# EAGLE library part 10HS (library con-harting-h)
CONNECTOR
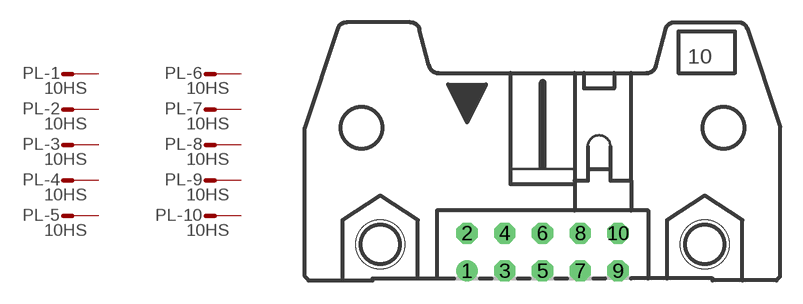
[diagram p11: symbol with the pads of 10H; footprint 10H]

Designator prefix PL; gates -1=M -2=M -3=M -4=M -5=M -6=M -7=M -8=M -9=M -10=M

## 10HS  [10H]
1  -1:S  pas
2  -2:S  pas
3  -3:S  pas
4  -4:S  pas
5  -5:S  pas
6  -6:S  pas
7  -7:S  pas
8  -8:S  pas
9  -9:S  pas
10  -10:S  pas

## Footprint 10H (pad centres in mm)
CONNECTOR
drill 0.914: 1 -5.08,-1.27
drill 0.914 octagon: 2 -5.08,1.27; 3 -2.54,-1.27; 4 -2.54,1.27; 5 0,-1.27; 6 0,1.27; 7 2.54,-1.27; 8 2.54,1.27; 9 5.08,-1.27; 10 5.08,1.27
hole 3.302 at -10.922,0.533
hole 3.302 at 10.922,0.533